# Altium schematic symbol library intersil.SCHLIB: 2 symbols
Pins are listed as number, name and electrical type; pins without a type are passive.

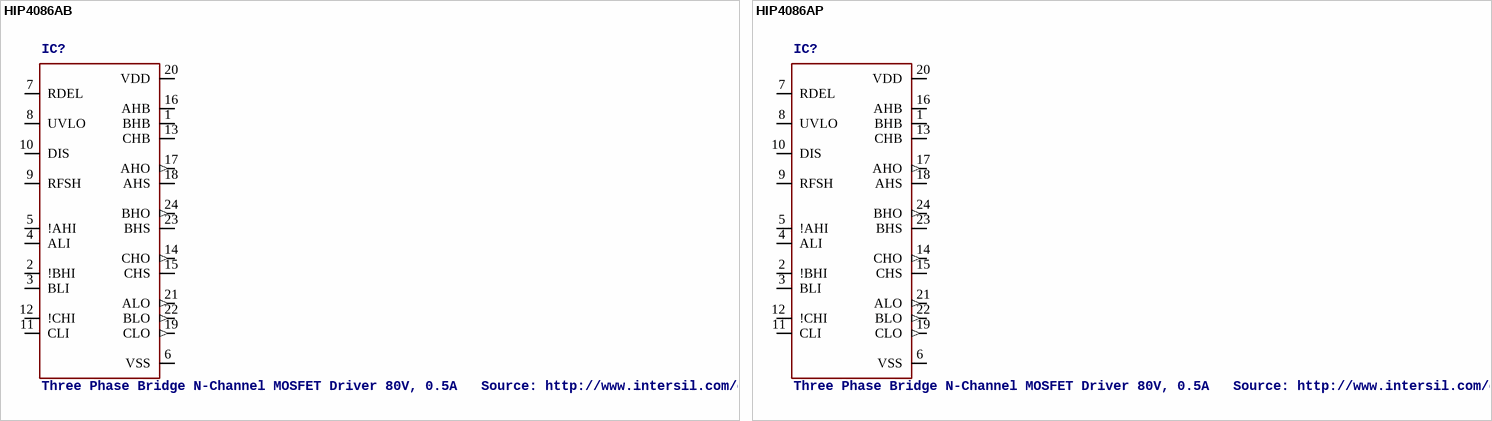
[diagram p0: symbols HIP4086AB to HIP4086AP]

## HIP4086AB
designator IC?, comment Three Phase Bridge N-Channel MOSFET Driver 80V, 0.5A   Source: http://www.intersil.com/data/fn/fn4220.pdf
MPN: HIP4086ABZ; MF: INTERSIL; OC_FARNELL: 1561974; OC_NEWARK: 20J4468
footprint SO24W
pins: 1 BHB, 2 !BHI, 3 BLI, 4 ALI, 5 !AHI, 6 VSS (power), 7 RDEL, 8 UVLO, 9 RFSH, 10 DIS, 11 CLI, 12 !CHI, 13 CHB, 14 CHO (out), 15 CHS, 16 AHB, 17 AHO (out), 18 AHS, 19 CLO (out), 20 VDD (power), 21 ALO (out), 22 BLO (out), 23 BHS, 24 BHO (out)

## HIP4086AP
designator IC?, comment Three Phase Bridge N-Channel MOSFET Driver 80V, 0.5A   Source: http://www.intersil.com/data/fn/fn4220.pdf
MPN: HIP4086APZ; MF: INTERSIL; OC_FARNELL: 9664203; OC_NEWARK: 61J5967
footprint DIL24-6
pins: 1 BHB, 2 !BHI, 3 BLI, 4 ALI, 5 !AHI, 6 VSS (power), 7 RDEL, 8 UVLO, 9 RFSH, 10 DIS, 11 CLI, 12 !CHI, 13 CHB, 14 CHO (out), 15 CHS, 16 AHB, 17 AHO (out), 18 AHS, 19 CLO (out), 20 VDD (power), 21 ALO (out), 22 BLO (out), 23 BHS, 24 BHO (out)